# Altium schematic symbol library Photon.SCHLIB: 7 symbols
Pins are listed as number, name and electrical type; pins without a type are passive.

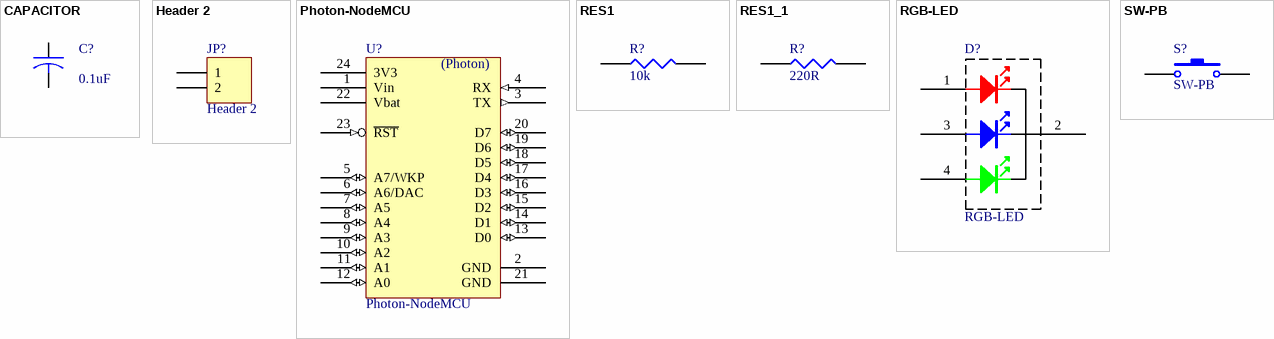
[diagram p0: symbols CAPACITOR to SW-PB]

## CAPACITOR
designator C?, comment 0.1uF
Non-polarized Electrolytic Capacitor
footprint RAD0.2
pins: 1, 2

## Header 2
designator JP?
Header, 2-Pin; Revision: 17-Jul-2002: Re-released for DXP Platform.; Publisher: Altium Limited
footprint HDR1X2 (Connector; Header; 2 Position)
signal-integrity model Connector
pins: 1, 2

## Photon-NodeMCU
designator U?
footprint PHOTONNODE_TH
pins: 1 Vin (power), 2 GND (power), 3 TX (out), 4 RX (in), 5 A7/WKP (io), 6 A6/DAC (io), 7 A5 (io), 8 A4 (io), 9 A3 (io), 10 A2 (io), 11 A1 (io), 12 A0 (io), 13 D0 (io), 14 D1 (io), 15 D2 (io), 16 D3 (io), 17 D4 (io), 18 D5 (io), 19 D6 (io), 20 D7 (io), 21 GND (power), 22 Vbat (power), 23 ~{RST} (in), 24 3V3 (power)
text: (Photon)

## RES1
designator R?, comment 10k
Resistor
footprint axial0.5
pins: 1, 2

## RES1_1
designator R?, comment 220R
Resistor
footprint axial0.5
pins: 1, 2

## RGB-LED
designator D?
RGB Capable LED
footprint RGB-LED
pins: 1, 2, 3, 4

## SW-PB
designator S?
Push-button Switch; Published: 24-Mar-1999; LatestRevisionDate: 17-Jul-2002; LatestRevisionNote: Re-released for DXP Platform.; PackageReference: SPST-2; Publisher: Altium Limited; PackageDescription: Switch; 2 Leads
footprint SPST-2 (Switch; 2 Leads)
pins: 1, 2